# Altium schematic symbol library NFET.SchLib: 1 symbol
Pins are listed as number, name and electrical type; pins without a type are passive.

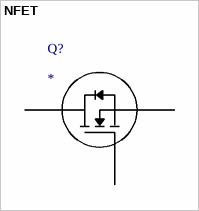
[diagram p0: symbol NFET]

## NFET
designator Q?
N-channel MOSFET 3-pin
pins: 1 G, 2 D, 3 S